# Altium schematic symbol library Schlib_Voltbricks.SchLib: 1 symbol
Pins are listed as number, name and electrical type; pins without a type are passive.

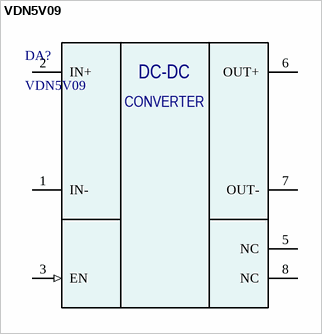
[diagram p0: symbol VDN5V09]

## VDN5V09
designator DA?
Isolated DC-DC Converter Vin = 18..36V, Vout = 9V @ 0.55A; Manufacturer: Voltbricks; Part Number: VDN5V09; Package: SIP-8
footprint VDN5_SIP8
pins: 1 IN- (power), 2 IN+ (power), 3 EN (in), 5 NC (hiz), 6 OUT+ (power), 7 OUT- (power), 8 NC (hiz)
text: DC-DC; CONVERTER